# Altium schematic symbol library QUTMS_BatteryLibrary.SchLib: 1 symbol
Pins are listed as number, name and electrical type; pins without a type are passive.

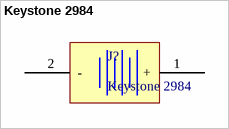
[diagram p0: symbol Keystone 2984]

## Keystone 2984
designator J?
Battery Retainer Coin, 12.0mm 1 Cell SMD (SMT) Tab
footprint Model Name (Footprint not found)
footprint KEYSTONE 2894
pins: 1 +, 2 -